# Altium schematic symbol library Schlib1.SchLib: 28 symbols
Pins are listed as number, name and electrical type; pins without a type are passive.

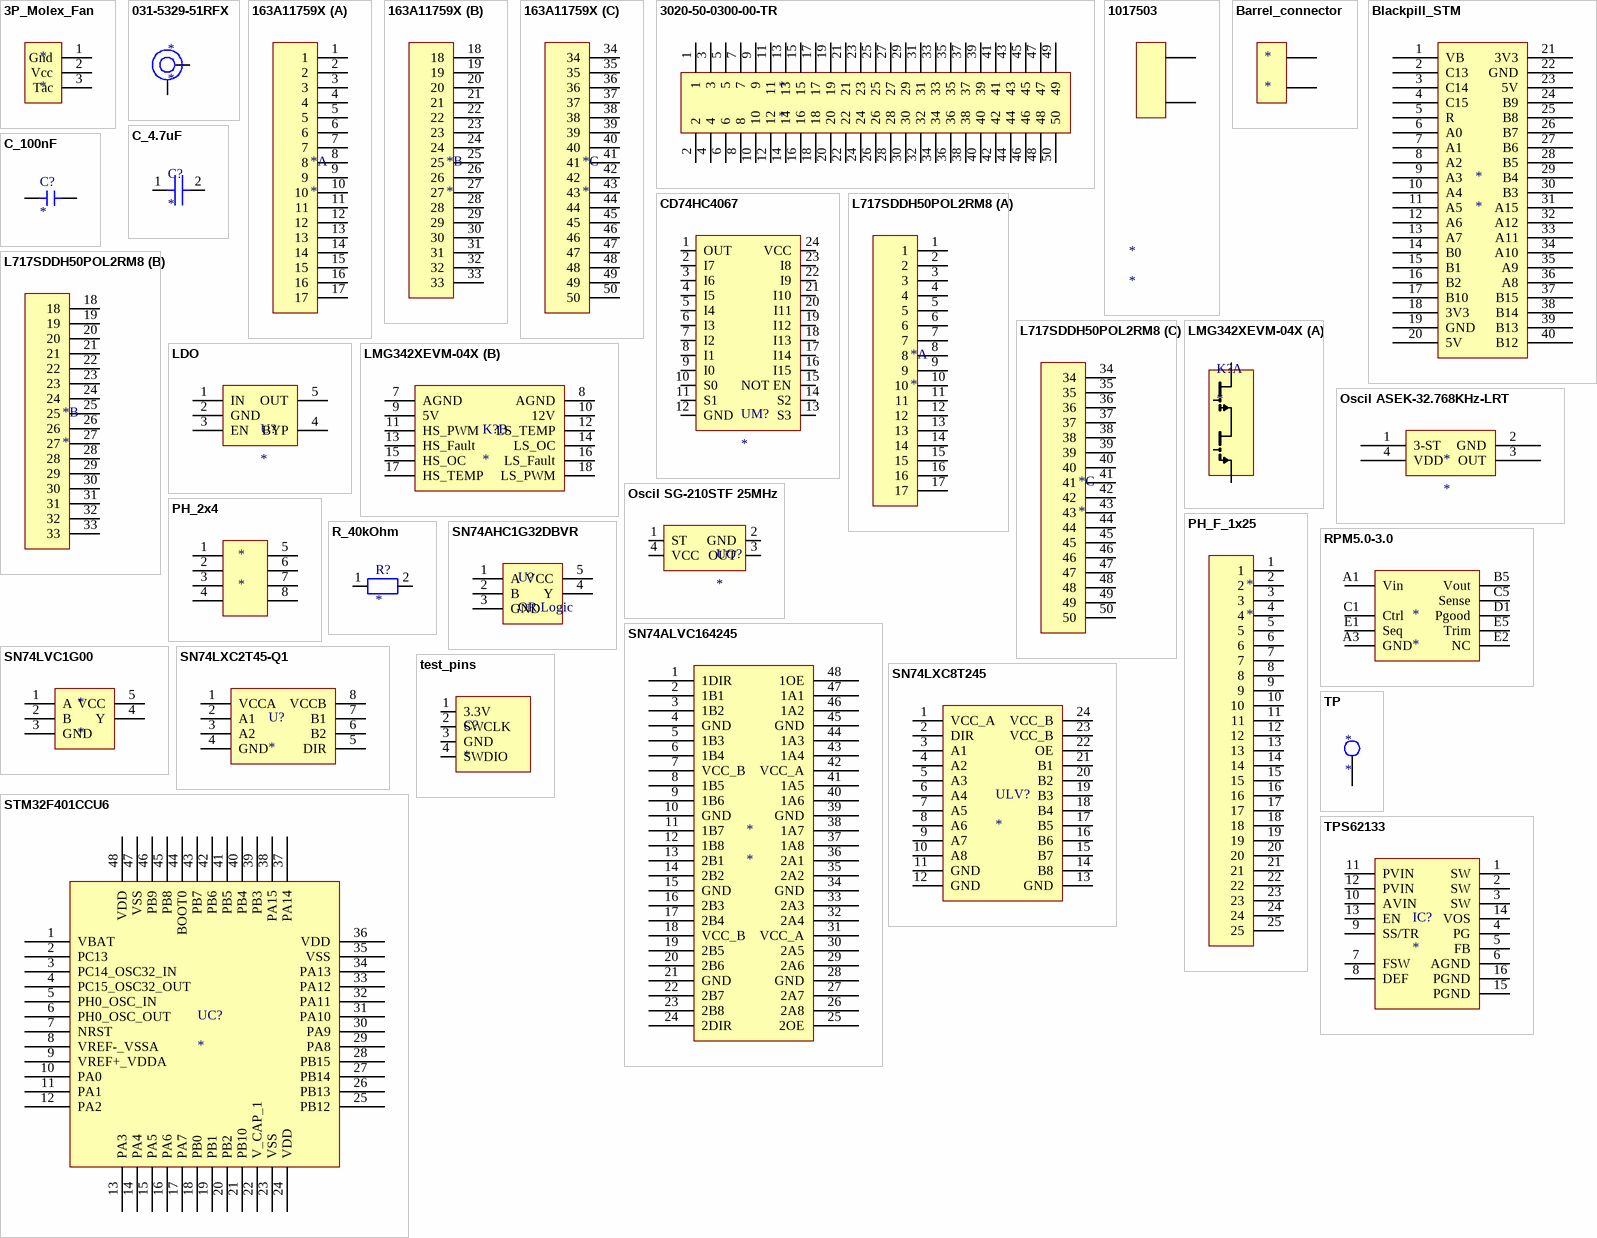
[diagram p0: symbols 3P_Molex_Fan to TPS62133]

## 3P_Molex_Fan
designator *
footprint 3P_Molex
pins: 1 Gnd, 2 Vcc, 3 Tac

## 031-5329-51RFX
designator *
footprint BNC_PCB
pins: 1, 2

## 163A11759X
designator *
footprint 163A11759X
part A pins: 1, 2, 3, 4, 5, 6, 7, 8, 9, 10, 11, 12, 13, 14, 15, 16, 17
part B pins: 18, 19, 20, 21, 22, 23, 24, 25, 26, 27, 28, 29, 30, 31, 32, 33
part C pins: 34, 35, 36, 37, 38, 39, 40, 41, 42, 43, 44, 45, 46, 47, 48, 49, 50

## 3020-50-0300-00-TR
designator *
footprint IDC_2x50
pins: 1, 2, 3, 4, 5, 6, 7, 8, 9, 10, 11, 12, 13, 14, 15, 16, 17, 18, 19, 20, 21, 22, 23, 24, 25, 26, 27, 28, 29, 30, 31, 32, 33, 34, 35, 36, 37, 38, 39, 40, 41, 42, 43, 44, 45, 46, 47, 48, 49, 50

## 1017503
designator *
footprint terminal
pins: 1, 2 8

## Barrel_connector
designator *
footprint PCBComponent_1
footprint PCBComponent_1
pins: 1, 2 8, 3 8

## Blackpill_STM
designator *
pins: 1 VB, 2 C13, 3 C14, 4 C15, 5 R, 6 A0, 7 A1, 8 A2, 9 A3, 10 A4, 11 A5, 12 A6, 13 A7, 14 B0, 15 B1, 16 B2, 17 B10, 18 3V3, 19 GND, 20 5V, 21 3V3, 22 GND, 23 5V, 24 B9, 25 B8, 26 B7, 27 B6, 28 B5, 29 B4, 30 B3, 31 A15, 32 A12, 33 A11, 34 A10, 35 A9, 36 A8, 37 B15, 38 B14, 39 B13, 40 B12

## C_4.7uF
designator C?
footprint CAPC1005X02N (Chip Capacitor, 2-Leads, Body 1,00x0,50mm, IPC Medium Density)
pins: 1, 2

## C_100nF
designator C?
footprint CAPC1005X02N (Chip Capacitor, 2-Leads, Body 1,00x0,50mm, IPC Medium Density)
pins: 1, 2

## CD74HC4067
designator UM?
footprint CD74HC4067SM96
pins: 1 OUT, 2 I7, 3 I6, 4 I5, 5 I4, 6 I3, 7 I2, 8 I1, 9 I0, 10 S0, 11 S1, 12 GND, 13 S3, 14 S2, 15 NOT EN, 16 I15, 17 I14, 18 I13, 19 I12, 20 I11, 21 I10, 22 I9, 23 I8, 24 VCC

## L717SDDH50POL2RM8
designator *
footprint L717SDDH50POL2RM8
part A pins: 1, 2, 3, 4, 5, 6, 7, 8, 9, 10, 11, 12, 13, 14, 15, 16, 17
part B pins: 18, 19, 20, 21, 22, 23, 24, 25, 26, 27, 28, 29, 30, 31, 32, 33
part C pins: 34, 35, 36, 37, 38, 39, 40, 41, 42, 43, 44, 45, 46, 47, 48, 49, 50

## LDO
designator U?
footprint LDK120-5N-200mA (SOT23, 5-Leads, Body 2,95x2,80mm, Pitch 0,95mm, IPC Medium Density)
footprint LDK120-6P (SON, 6-Leads, Body 1,30x1,20mm, Pitch 0,40mm, IPC Medium Density)
pins: 1 IN, 2 GND, 3 EN, 4 BYP, 5 OUT

## LMG342XEVM-04X
designator K?
footprint LMG342XEVM-04X
part A pins: 1 HV, 2 HV, 3 SW, 4 SW, 5 PGND, 6 PGND
part B pins: 7 AGND, 8 AGND, 9 5V, 10 12V, 11 HS_PWM, 12 LS_TEMP, 13 HS_Fault, 14 LS_OC, 15 HS_OC, 16 LS_Fault, 17 HS_TEMP, 18 LS_PWM

## Oscil ASEK-32.768KHz-LRT
designator *
footprint ASEK-32.768KHz
pins: 1 3-ST, 2 GND, 3 OUT, 4 VDD

## Oscil SG-210STF 25MHz
designator UO?
footprint SG-210STF-25.0000M
pins: 1 ST, 2 GND (power), 3 OUT, 4 VCC (power)

## PH_2x4
designator *
footprint PH_2x4
pins: 1, 2, 3, 4, 5, 6, 7, 8

## PH_F_1x25
designator *
footprint PH_F_1x25
pins: 1, 2, 3, 4, 5, 6, 7, 8, 9, 10, 11, 12, 13, 14, 15, 16, 17, 18, 19, 20, 21, 22, 23, 24, 25

## R_40kOhm
designator R?
footprint RESC1005X03N (Chip Resistor, 2-Leads, Body 1,00x0,50mm, IPC Medium Density)
pins: 1, 2

## RPM5.0-3.0
designator *
pins: A1 Vin, A2 Vin, A3 GND, A4 GND, A5, B1 GND, B2 GND, B3 GND, B4 GND, B5 Vout, C1 Ctrl, C2 GND, C3 GND, C4 GND, C5 Sense, D1 Pgood, D2 GND, D3 GND, D4 GND, D5 GND, E1 Seq, E2 NC, E3 GND, E4 GND, E5 Trim

## SN74AHC1G32DBVR
designator U?, comment OR Logic
footprint sot23
pins: 1 A, 2 B, 3 GND, 4 Y, 5 VCC

## SN74ALVC164245
designator *
footprint DGG0048A
pins: 1 1DIR, 2 1B1, 3 1B2, 4 GND (power), 5 1B3, 6 1B4, 7 VCC_B (power), 8 1B5, 9 1B6, 10 GND (power), 11 1B7, 12 1B8, 13 2B1, 14 2B2, 15 GND (power), 16 2B3, 17 2B4, 18 VCC_B (power), 19 2B5, 20 2B6, 21 GND (power), 22 2B7, 23 2B8, 24 2DIR, 25 2OE, 26 2A8, 27 2A7, 28 GND (power), 29 2A6, 30 2A5, 31 VCC_A (power), 32 2A4, 33 2A3, 34 GND (power), 35 2A2, 36 2A1, 37 1A8, 38 1A7, 39 GND (power), 40 1A6, 41 1A5, 42 VCC_A (power), 43 1A4, 44 1A3, 45 GND (power), 46 1A2, 47 1A1, 48 1OE

## SN74LVC1G00
designator *
footprint sot23
pins: 1 A, 2 B, 3 GND, 4 Y, 5 VCC

## SN74LXC2T45-Q1
designator U?
footprint SN74LXC2T45-Q1
pins: 1 VCCA (power), 2 A1, 3 A2, 4 GND (power), 5 DIR (power), 6 B2, 7 B1, 8 VCCB (power)

## SN74LXC8T245
designator ULV?
footprint SOP127P600-8N
pins: 1 VCC_A (power), 2 DIR, 3 A1, 4 A2, 5 A3, 6 A4, 7 A5, 8 A6, 9 A7, 10 A8, 11 GND (power), 12 GND (power), 13 GND (power), 14 B8, 15 B7, 16 B6, 17 B5, 18 B4, 19 B3, 20 B2, 21 B1, 22 OE, 23 VCC_B (power), 24 VCC_B (power)

## STM32F401CCU6
designator UC?
footprint STM32F401CCU6-UFQFPN48 (TSQFP, 48-Leads, Body 6,00x6,00mm, Pitch 0,50mm, Thermal Pad 5,40x5,40mm, IPC Medium Density)
pins: 1 VBAT (power), 2 PC13, 3 PC14_OSC32_IN, 4 PC15_OSC32_OUT, 5 PH0_OSC_IN, 6 PH0_OSC_OUT, 7 NRST, 8 VREF-_VSSA, 9 VREF+_VDDA, 10 PA0, 11 PA1, 12 PA2, 13 PA3, 14 PA4, 15 PA5, 16 PA6, 17 PA7, 18 PB0, 19 PB1, 20 PB2, 21 PB10, 22 V_CAP_1, 23 VSS (power), 24 VDD (power), 25 PB12, 26 PB13, 27 PB14, 28 PB15, 29 PA8, 30 PA9, 31 PA10, 32 PA11, 33 PA12, 34 PA13, 35 VSS (power), 36 VDD (power), 37 PA14, 38 PA15, 39 PB3, 40 PB4, 41 PB5, 42 PB6, 43 PB7, 44 BOOT0, 45 PB8, 46 PB9, 47 VSS (power), 48 VDD (power)

## test_pins
designator C?
footprint Test_pins
pins: 1 3.3V, 2 SWCLK, 3 GND, 4 SWDIO

## TP
designator *
footprint 746600430R
pins: 1

## TPS62133
designator IC?
footprint VQFN
pins: 1 SW, 2 SW, 3 SW, 4 PG, 5 FB, 6 AGND, 7 FSW, 8 DEF, 9 SS/TR, 10 AVIN, 11 PVIN, 12 PVIN, 13 EN, 14 VOS, 15 PGND, 16 PGND